# EAGLE library part LTC6802IG-2PBF (library common)
Multicell Battery Stack Monitor
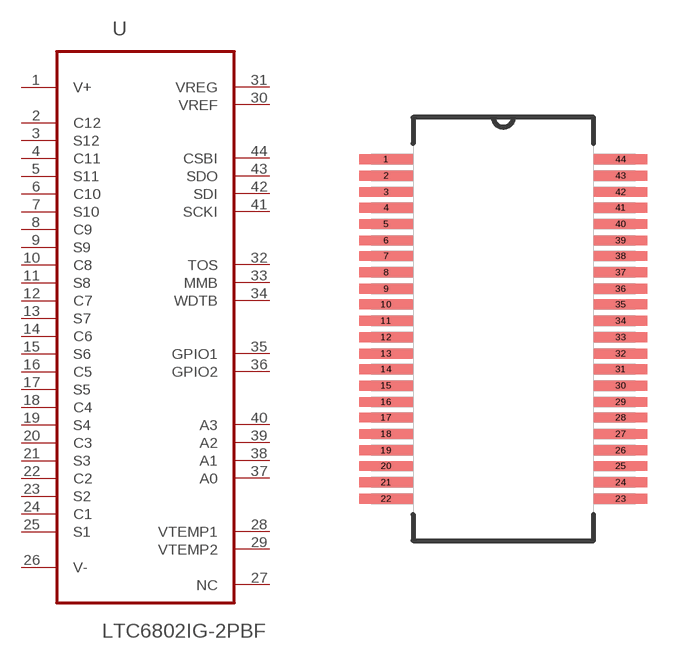
[diagram p3: symbol with the pads of SOP50P780X200-44N; footprint SOP50P780X200-44N]

Designator prefix U

## LTC6802IG-2PBF (MPN: LTC6802IG-2#PBF; OC_FARNELL: 1847457; OC_NEWARK: 72P2172; PACKAGE: SSOP-44; SUPPLIER: Linear Technology)  [SOP50P780X200-44N]
1  V+  pwr
2  C12  in
3  S12  out
4  C11  in
5  S11  out
6  C10  in
7  S10  out
8  C9  in
9  S9  out
10  C8  in
11  S8  out
12  C7  in
13  S7  out
14  C6  in
15  S6  out
16  C5  in
17  S5  out
18  C4  in
19  S4  out
20  C3  in
21  S3  out
22  C2  in
23  S2  out
24  C1  in
25  S1  out
26  V-  pwr
27  NC  nc
28  VTEMP1  in
29  VTEMP2  in
30  VREF  out
31  VREG  out
32  TOS  in
33  MMB  in
34  WDTB  out
35  GPIO1
36  GPIO2
37  A0  in
38  A1  in
39  A2  in
40  A3  in
41  SCKI  in
42  SDI  in
43  SDO  out
44  CSBI  in

## Footprint SOP50P780X200-44N (pad centres in mm)
smd 1.651 x 0.305: 1 -3.632,5.258; 2 -3.632,4.75; 3 -3.632,4.242; 4 -3.632,3.759; 5 -3.632,3.251; 6 -3.632,2.743; 7 -3.632,2.261; 8 -3.632,1.753; 9 -3.632,1.245; 10 -3.632,0.762; 11 -3.632,0.254; 12 -3.632,-0.254; 13 -3.632,-0.762; 14 -3.632,-1.245; 15 -3.632,-1.753; 16 -3.632,-2.261; 17 -3.632,-2.743; 18 -3.632,-3.251; 19 -3.632,-3.759; 20 -3.632,-4.242; 21 -3.632,-4.75; 22 -3.632,-5.258; 23 3.632,-5.258; 24 3.632,-4.75; 25 3.632,-4.242; 26 3.632,-3.759; 27 3.632,-3.251; 28 3.632,-2.743; 29 3.632,-2.261; 30 3.632,-1.753; 31 3.632,-1.245; 32 3.632,-0.762; 33 3.632,-0.254; 34 3.632,0.254; 35 3.632,0.762; 36 3.632,1.245; 37 3.632,1.753; 38 3.632,2.261; 39 3.632,2.743; 40 3.632,3.251; 41 3.632,3.759; 42 3.632,4.242; 43 3.632,4.75; 44 3.632,5.258